# Altium schematic symbol library IC.SchLib: 15 symbols
Pins are listed as number, name and electrical type; pins without a type are passive.

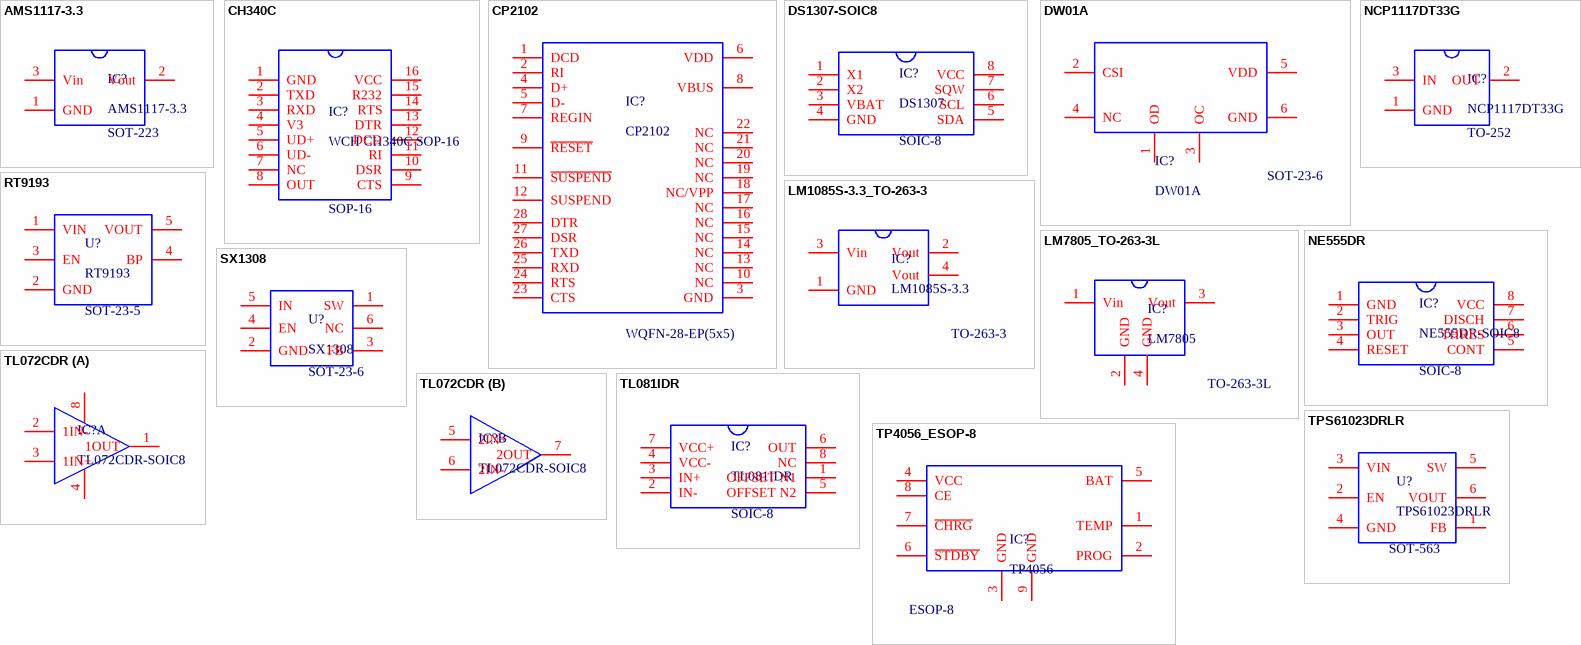
[diagram p0: symbols AMS1117-3.3 to TPS61023DRLR]

## AMS1117-3.3
designator IC?  Package: SOT-223
72dB@(120Hz) 1A Fixed 3.3V Positive 16V SOT-223 Voltage Regulators - Linear, Low Drop Out (LDO) Regulators ROHS; Manufacturer: Advanced Monolithic Systems; Voltage Dropout: 1.1V@(800mA); Number of Outputs: 1; Mfr. Part: AMS1117-3.3; LCSC Part: C6186; Link: https://www.lcsc.com/product-detail/C6186.html?s_z=n_AMS1117-3.3; Category: Power Management (PMIC)/Voltage Regulators - Linear, Low Drop Out (LDO) Regulators; Output Current: 1A; Output Voltage: 3.3V; Output Configuration: Positive; Operating Temperature: -40℃~+125℃; Voltage - Supply: 16V
footprint SOT-223
pins: 1 GND, 2 Vout, 3 Vin

## CH340C
designator IC?, comment WCH CH340C SOP-16  Package: SOP-16
2Mbps Transceiver USB 2.0 SOP-16 USB Converters ROHS; Key Attributes: USB to Serial Port chip; Voltage - Supply: 3.3V;5V; USB Protocol: USB 2.0; Manufacturer: WCH; Mfr. Part: CH340C; LCSC Part: C84681; Link: https://www.lcsc.com/product-detail/C84681.html?s_z=n_CH340C; Data Rate: 2Mbps; Applications Function: Transceiver
footprint SOP-16
pins: 1 GND, 2 TXD, 3 RXD, 4 V3, 5 UD+, 6 UD-, 7 NC, 8 OUT, 9 CTS, 10 DSR, 11 RI, 12 DCD, 13 DTR, 14 RTS, 15 R232, 16 VCC

## CP2102
designator IC?  Package: WQFN-28-EP(5x5)
12Mbps Transceiver WQFN-28-EP(5x5) USB Converters ROHS; Manufacturer: SILICON LABS; Mfr. Part: CP2102-GMR; Key Attributes: Single-Chip USB to UART Bridge; Voltage - Supply: 3V~3.6V; Link: https://www.lcsc.com/product-detail/C6568.html?s_z=n_CP2102-GMR; Data Rate: 12Mbps; Applications Function: Transceiver; LCSC Part: C6568
footprint WQFN-28-EP(5x5)
pins: 1 DCD, 2 RI, 3 GND, 4 D+, 5 D-, 6 VDD, 7 REGIN, 8 VBUS, 9 ~{RESET}, 10 NC, 11 ~{SUSPEND}, 12 SUSPEND, 13 NC, 14 NC, 15 NC, 16 NC, 17 NC, 18 NC/VPP, 19 NC, 20 NC, 21 NC, 22 NC, 23 CTS, 24 RTS, 25 RXD, 26 TXD, 27 DSR, 28 DTR

## DS1307-SOIC8
designator IC?, comment DS1307  Package: SOIC-8
I2C SOIC-8 Real Time Clocks ROHS; Manufacturer: MAXIM; Mfr. Part: DS1307Z+T&R; Key Attributes: 64 x 8, Serial, I²C Real-Time Clock; LCSC Part: C9868; Link: https://www.lcsc.com/product-detail/C9868.html?s_z=n_DS1307; Interface: I2C
footprint SOIC-8
pins: 1 X1, 2 X2, 3 VBAT, 4 GND, 5 SDA, 6 SCL, 7 SQW, 8 VCC

## DW01A
designator IC?  Package: SOT-23-6
1.5V~8V Lithium-ion/Polymer 1 SOT-23-6 Battery Management ROHS; Manufacturer: YONGYUTAI; Key Attributes: Lithium battery protection circuit; Number of Cells: 1; Charging Saturation Voltage: 4.3V; Mfr. Part: DW01A; LCSC Part: C2927799; Voltage - Supply: 1.5V~8V; Operating Temperature: -40℃~+85℃; Type of Battery: Lithium-ion/Polymer; Link: https://www.lcsc.com/product-detail/C2927799.html?s_z=n_dw01a
footprint SOT-23-6
pins: 1 OD, 2 CSI, 3 OC, 4 NC, 5 VDD, 6 GND

## LM1085S-3.3_TO-263-3
designator IC?, comment LM1085S-3.3  Package: TO-263-3
3A 65dB@(120Hz) Fixed 3.3V Positive 10V TO-263-3 Voltage Regulators - Linear, Low Drop Out (LDO) Regulators ROHS; Manufacturer: HGSEMI; Mfr. Part: LM1085S-3.3/TR; Number of Outputs: 1; LCSC Part: C444380; Link: https://www.lcsc.com/product-detail/C444380.html?s_z=n_%2509%2520lm1085; Category: Power Management (PMIC)/Voltage Regulators - Linear, Low Drop Out (LDO) Regulators; Output Current: 3A; Output Voltage: 3.3V; Output Configuration: Positive; Operating Temperature: 0℃~+125℃@(Tj); Voltage - Supply: 10V
footprint TO-263-3
pins: 1 GND, 2 Vout, 3 Vin, 4 Vout

## LM7805_TO-263-3L
designator IC?, comment LM7805  Package: TO-263-3L
62dB@(120Hz) 1A Fixed 4.8V~5.2V Positive 35V TO-263-3L Voltage Regulators - Linear, Low Drop Out (LDO) Regulators ROHS; Manufacturer: HANSCHIP semiconductor; Mfr. Part: LM7805SRG; Number of Outputs: 1; LCSC Part: C5145372; Link: https://www.lcsc.com/product-detail/C5145372.html?s_z=n_lm7805; Category: Power Management (PMIC)/Voltage Regulators - Linear, Low Drop Out (LDO) Regulators; Output Current: 1A; Output Voltage: 4.8V~5.2V; Output Configuration: Positive; Operating Temperature: -40℃~+85℃@(Ta); Voltage - Supply: 35V
footprint TO-263-3L
pins: 1 Vin, 2 GND, 3 Vout, 4 GND

## NCP1117DT33G
designator IC?  Package: TO-252
64dB@(120Hz) 1A Fixed 3.3V Positive 20V TO-252 Voltage Regulators - Linear, Low Drop Out (LDO) Regulators ROHS; Manufacturer: onsemi; Key Attributes: 1.0 A Low-Dropout Positive Fixed and Adjustable Voltage Regulators; Standby current: 6mA; Voltage Dropout: 1.2V@(800mA); Number of Outputs: 1; Mfr. Part: NCP1117DT33G; LCSC Part: C154606; Link: https://www.lcsc.com/product-detail/C154606.html?s_z=n_NCP1117DT33G; Category: Power Management (PMIC)/Voltage Regulators - Linear, Low Drop Out (LDO) Regulators; Output Current: 1A; Output Type: Fixed; Output Voltage: 3.3V; Output Configuration: Positive; Voltage - Supply: 20V; Operating Temperature: 0℃~+125℃
footprint TO-252
pins: 1 GND, 2 OUT, 3 IN

## NE555DR
designator IC?, comment NE555DR-SOIC8  Package: SOIC-8
SOIC-8 555 Timers / Counters ROHS; Manufacturer: TI; Key Attributes: Precision Timers; Mfr. Part: NE555DR; LCSC Part: C7593; Link: https://www.lcsc.com/product-detail/C7593.html?s_z=n_NE555DR
footprint SOIC-8
pins: 1 GND, 2 TRIG, 3 OUT, 4 RESET, 5 CONT, 6 THRES, 7 DISCH, 8 VCC

## RT9193
designator U?  Package: SOT-23-5
300mA -50dB@(10kHz) Fixed 3.3V Positive 5.5V SOT-23-5 Voltage Regulators - Linear, Low Drop Out (LDO) Regulators ROHS; Manufacturer: RICHTEK; Mfr. Part: RT9193-33GB; Key Attributes: 300mA, Ultra-Low Noise, Ultra-Fast CMOS LDO Regulator; Voltage Dropout: 220mV@(300mA); Number of Outputs: 1; LCSC Part: C15651; Voltage - Supply: 5.5V; Operating Temperature: -40℃~+125℃@(Tj); Link: https://www.lcsc.com/product-detail/C15651.html?s_z=n_RT9193; Output Current: 300mA; Output Voltage: 3.3V; Output Configuration: Positive
footprint SOT-23-5
pins: 1 VIN, 2 GND, 3 EN, 4 BP, 5 VOUT

## SX1308
designator U?  Package: SOT-23-6
Boost Adjustable 2A 2V~24V SOT-23-6 DC-DC Converters ROHS; Manufacturer: SX; Key Attributes: High Efficiency 1.2MHz 2A Step Up Converter; Frequency - Switching: 1.2MHz; Mfr. Part: SX1308; LCSC Part: C78162; Operating Temperature: -40℃~+85℃; Link: https://www.lcsc.com/product-detail/C78162.html?s_z=n_SX1308; Output Current: 2A; Voltage - Supply: 2V~24V; Function: Boost
footprint SOT-23-6
pins: 1 SW, 2 GND, 3 FB, 4 EN, 5 IN, 6 NC

## TL072CDR
designator IC?, comment TL072CDR-SOIC8
3mV 65pA 3MHz 13V/us 2 SOIC-8 FET Input Amplifiers ROHS; Manufacturer: TI; Key Attributes: Low-Noise JFET-Input Operational Amplifiers; Quiescent Current(Iq): 1.4mA; Maximum Power Supply Range (Vdd-Vss): 30V; Number of Channels: 2; Mfr. Part: TL072CDR; LCSC Part: C67473; Package: SOIC-8; Vos - Input Offset Voltage: 3mV; Ib - Input Bias Current: 65pA; Operating Temperature: 0℃~+70℃; Gain Bandwidth Product: 3MHz; Link: https://www.lcsc.com/product-detail/C67473.html?s_z=n_TL072CDR
footprint SOIC-8
part A pins: 1 1OUT, 2 1IN-, 3 1IN+, 4 VCC-, 8 VCC+
part B pins: 5 2IN+, 6 2IN-, 7 2OUT

## TL081IDR
designator IC?  Package: SOIC-8
3mV 30pA 5.25MHz 20V/us 1.0 SOIC-8 FET Input Amplifiers ROHS; Manufacturer: TI; Key Attributes: FET-Input Operational Amplifiers; Quiescent Current(Iq): 937.5uA; Input Offset Current(Ios): 5pA; Single Supply: 4.5V~40V; Output Current: 26mA; Dual Supply: -20V~-2.25V;2.25V~20V; Number of Channels: 1.0; Mfr. Part: TL081IDR; LCSC Part: C2057919; Vos - Input Offset Voltage: 3mV; Ib - Input Bias Current: 30pA; Operating Temperature: -40℃~+85℃; Link: https://www.lcsc.com/product-detail/C2057919.html?s_z=n_TL081IDR
footprint SOIC-8
pins: 1 OFFSET N1, 2 IN-, 3 IN+, 4 VCC-, 5 OFFSET N2, 6 OUT, 7 VCC+, 8 NC

## TP4056_ESOP-8
designator IC?, comment TP4056  Package: ESOP-8
4V~6V Lithium-ion/Polymer 1 ESOP-8 Battery Management ROHS; Manufacturer: TPOWER; Key Attributes: 1A Lithium Battery Charger; Number of Cells: 1; Charging Saturation Voltage: 4.2V; Mfr. Part: TP4056; LCSC Part: C382139; Voltage - Supply: 4V~6V; Operating Temperature: -40℃~+85℃; Type of Battery: Lithium-ion/Polymer; Link: https://www.lcsc.com/product-detail/C382139.html?s_z=n_tp4056
footprint ESOP-8
pins: 1 TEMP, 2 PROG, 3 GND, 4 VCC, 5 BAT, 6 ~{STDBY}, 7 ~{CHRG}, 8 CE, 9 GND

## TPS61023DRLR
designator U?  Package: SOT-563
Boost Adjustable 2.2V~5.5V 3A 500mV~5.5V SOT-563 DC-DC Converters ROHS; Manufacturer: TI; Key Attributes: 3.7A boost converter with an ultra-low input voltage of 0.5V; Number of Outputs: 1; Frequency - Switching: 1MHz; Mfr. Part: TPS61023DRLR; LCSC Part: C919459; Voltage - Supply: 500mV~5.5V; Operating Temperature: -40℃~+125℃@(TJ); Link: https://www.lcsc.com/product-detail/C919459.html?s_z=n_%2509%2520TPS61023DRLR; Output Current: 3A; Output Voltage: 2.2V~5.5V; Function: Boost
footprint SOT-563
pins: 1 FB, 2 EN, 3 VIN, 4 GND, 5 SW, 6 VOUT